# Altium footprint library Package_SO.PcbLib: 33 footprints (part 2 of 3)
Each footprint in its own frame and in the unit in brackets; x right, y up, seen from the top. Pads: shape width x height; smd on the part's side, far side on the other; paste and mask are expansions set on the pad; w line width, h text height; cw(c..) or ccw(c..) is an arc to the next point about the centre after c.
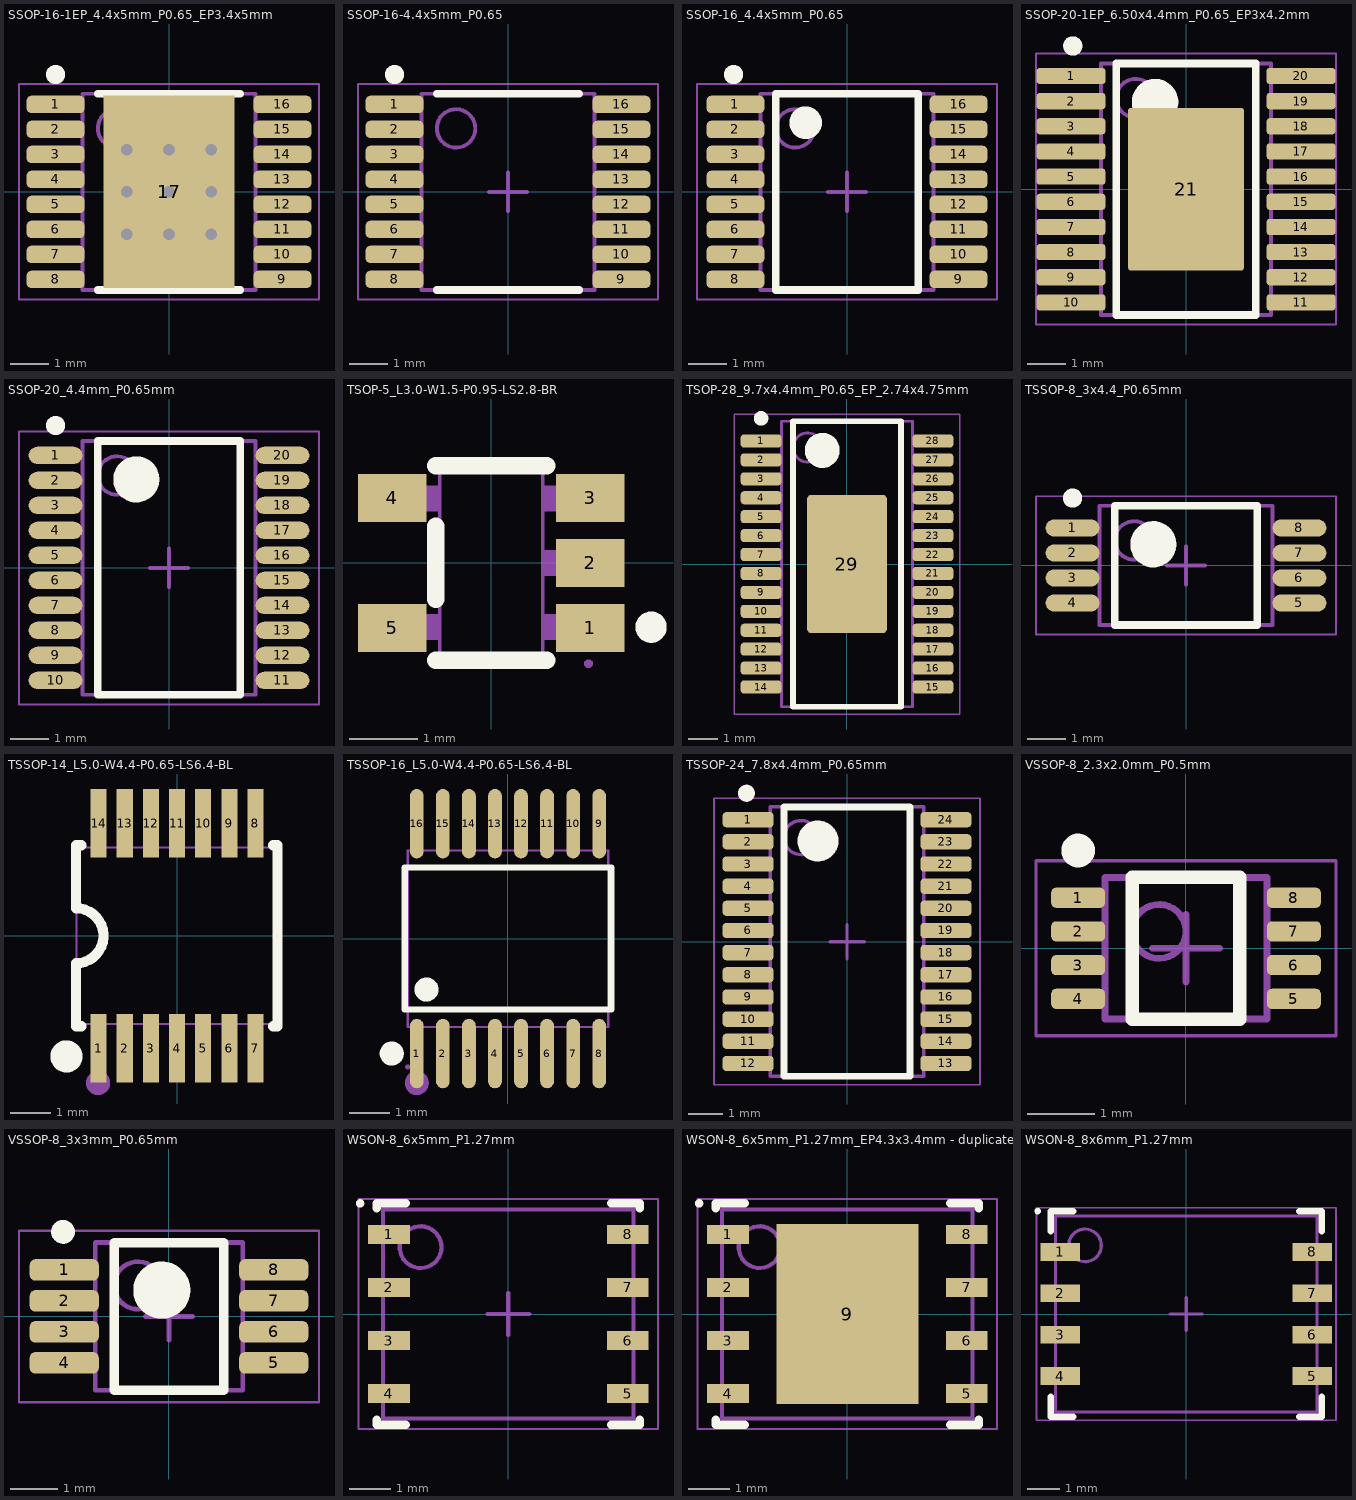
[diagram p1: the footprints below, top view; thin cyan lines are the x and y axes]

## SSOP-16-1EP_4.4x5mm_P0.65_EP3.4x5mm [mm] "TSOP, 16-Leads, Body 5.00x4.40mm, Pitch 0.65mm, Thermal Pad 3.30x3.30mm, IPC Medium Density"
height 1.2
pads (17):
  rrect50% 1.5x0.45 smd: 1(-2.95,2.275) 2(-2.95,1.625) 3(-2.95,0.975) 4(-2.95,0.325) 5(-2.95,-0.325) 6(-2.95,-0.975) 7(-2.95,-1.625) 8(-2.95,-2.275) 9(2.95,-2.275) 10(2.95,-1.625) 11(2.95,-0.975) 12(2.95,-0.325) 13(2.95,0.325) 14(2.95,0.975) 15(2.95,1.625) 16(2.95,2.275)
  rect 3.4x5 smd paste-0.85 mask-0.85: 17(0,0)
via -1.1,1.1 diameter 0.5 hole 0.3
via 0,1.1 diameter 0.5 hole 0.3
via 1.1,1.1 diameter 0.5 hole 0.3
via -1.1,0 diameter 0.5 hole 0.3
via 0,0 diameter 0.5 hole 0.3
via 1.1,0 diameter 0.5 hole 0.3
via -1.1,-1.1 diameter 0.5 hole 0.3
via 0,-1.1 diameter 0.5 hole 0.3
via 1.1,-1.1 diameter 0.5 hole 0.3
Top Overlay:
  circle w0.25: c-2.95,3.05 r0.125
  lines w0.2: -1.85,-2.55 1.85,-2.55 ; -1.85,2.55 1.85,2.55
Top Paste:
  rectangle: -1.65,-1.65 1.65,1.65
Top Solder:
  rectangle: -1.65,-1.65 1.65,1.65
Mechanical 13:
  circle w0.1: c-1.35,1.65 r0.5
  lines w0.1: -2.25,-2.55 -2.25,2.55 2.25,2.55 2.25,-2.55 -2.25,-2.55
Mechanical 15:
  lines w0.05: -3.9,-2.8 -3.9,2.8 3.9,2.8 3.9,-2.8 -3.9,-2.8
  lines w0.1: -0.5,0 0.5,0 ; 0,-0.5 0,0.5
3D body "TSOP65P640X120_HS-17N.step": height 1.2, standoff 0, extent -3.2,-2.55 3.2,2.55

## SSOP-16-4.4x5mm_P0.65 [mm] "TSOP, 16-Leads, Body 5.00x4.40mm, Pitch 0.65mm, Thermal Pad 3.30x3.30mm, IPC Medium Density"
height 1.2
pads (16):
  rrect50% 1.5x0.45 smd: 1(-2.95,2.275) 2(-2.95,1.625) 3(-2.95,0.975) 4(-2.95,0.325) 5(-2.95,-0.325) 6(-2.95,-0.975) 7(-2.95,-1.625) 8(-2.95,-2.275) 9(2.95,-2.275) 10(2.95,-1.625) 11(2.95,-0.975) 12(2.95,-0.325) 13(2.95,0.325) 14(2.95,0.975) 15(2.95,1.625) 16(2.95,2.275)
Top Overlay:
  circle w0.25: c-2.95,3.05 r0.125
  lines w0.2: -1.85,-2.55 1.85,-2.55 ; -1.85,2.55 1.85,2.55
Mechanical 13:
  circle w0.1: c-1.35,1.65 r0.5
  lines w0.1: -2.25,-2.55 -2.25,2.55 2.25,2.55 2.25,-2.55 -2.25,-2.55
Mechanical 15:
  lines w0.05: -3.9,-2.8 -3.9,2.8 3.9,2.8 3.9,-2.8 -3.9,-2.8
  lines w0.1: -0.5,0 0.5,0 ; 0,-0.5 0,0.5
3D body "TSOP65P640X120_HS-17N.step": height 1.2, standoff 0, extent -3.2,-2.55 3.2,2.55

## SSOP-16_4.4x5mm_P0.65 [mm] "TSOP, 16-Leads, Body 5.00x4.40mm, Pitch 0.65mm, Thermal Pad 3.30x3.30mm, IPC Medium Density"
height 1.2
pads (16):
  rrect50% 1.5x0.45 smd: 1(-2.9,2.275) 2(-2.9,1.625) 3(-2.9,0.975) 4(-2.9,0.325) 5(-2.9,-0.325) 6(-2.9,-0.975) 7(-2.9,-1.625) 8(-2.9,-2.275) 9(2.9,-2.275) 10(2.9,-1.625) 11(2.9,-0.975) 12(2.9,-0.325) 13(2.9,0.325) 14(2.9,0.975) 15(2.9,1.625) 16(2.9,2.275)
Top Overlay:
  circle w0.5: c-1.075,1.8 r0.175
  circle w0.25: c-2.95,3.05 r0.125
  lines w0.2: -1.85,-2.55 1.85,-2.55 1.85,2.55 -1.85,2.55 -1.85,-2.55
Mechanical 13:
  circle w0.1: c-1.35,1.65 r0.5
  lines w0.1: -2.25,-2.55 2.25,-2.55 2.25,2.55 -2.25,2.55 -2.25,-2.55
Mechanical 15:
  lines w0.05: -3.9,-2.8 3.9,-2.8 3.9,2.8 -3.9,2.8 -3.9,-2.8
  lines w0.1: -0.5,0 0.5,0 ; 0,-0.5 0,0.5
3D body "TSOP65P640X120_HS-17N.step": height 1.2, standoff 0, extent -3.2,-2.55 3.2,2.55

## SSOP-20-1EP_6.50x4.4mm_P0.65_EP3x4.2mm [mm] "TSOP, 20-Leads, Body 6.50x4.40mm, Pitch 0.65mm, IPC Medium Density"
height 0.9
pads (21):
  rrect40% 1.78x0.42 smd: 1(-2.97,2.925) 2(-2.97,2.275) 3(-2.97,1.625) 4(-2.97,0.975) 5(-2.97,0.325) 6(-2.97,-0.325) 7(-2.97,-0.975) 8(-2.97,-1.625) 9(-2.97,-2.275) 10(-2.97,-2.925) 11(2.97,-2.925) 12(2.97,-2.275) 13(2.97,-1.625) 14(2.97,-0.975) 15(2.97,-0.325) 16(2.97,0.325) 17(2.97,0.975) 18(2.97,1.625) 19(2.97,2.275) 20(2.97,2.925)
  rrect5% 3x4.2 smd: 21(0,0)
Top Overlay:
  circle w0.25: c-2.925,3.7 r0.125
  circle w0.6: c-0.8,2.25 r0.3
  lines w0.2: -1.8,-3.25 -1.8,3.25 1.8,3.25 1.8,-3.25 -1.8,-3.25
Mechanical 13:
  circle w0.1: c-1.3,2.35 r0.5
  lines w0.1: -2.2,-3.25 -2.2,3.25 2.2,3.25 2.2,-3.25 -2.2,-3.25
Mechanical 15:
  lines w0.05: -3.875,-3.5 -3.875,3.5 3.875,3.5 3.875,-3.5 -3.875,-3.5
  lines w0.1: -0.5,0 0.5,0 ; 0,-0.5 0,0.5
3D body "TSOP65P640X90-20N.step": height 0.9, standoff 0, extent -3.2,-3.25 3.2,3.25

## SSOP-20_4.4mm_P0.65mm [mm] "TSOP, 20-Leads, Body 6.50x4.40mm, Pitch 0.65mm, IPC Medium Density"
height 1.2
pads (20):
  oval 1.4x0.45 smd: 1(-2.95,2.925) 2(-2.95,2.275) 3(-2.95,1.625) 4(-2.95,0.975) 5(-2.95,0.325) 6(-2.95,-0.325) 7(-2.95,-0.975) 8(-2.95,-1.625) 9(-2.95,-2.275) 10(-2.95,-2.925) 11(2.95,-2.925) 12(2.95,-2.275) 13(2.95,-1.625) 14(2.95,-0.975) 15(2.95,-0.325) 16(2.95,0.325) 17(2.95,0.975) 18(2.95,1.625) 19(2.95,2.275) 20(2.95,2.925)
Top Overlay:
  circle w0.6: c-0.85,2.3 r0.3
  circle w0.25: c-2.95,3.7 r0.125
  lines w0.2: -1.85,-3.3 1.85,-3.3 1.85,3.3 -1.85,3.3 -1.85,-3.3
Mechanical 13:
  circle w0.1: c-1.35,2.4 r0.5
  lines w0.1: -2.25,-3.3 2.25,-3.3 2.25,3.3 -2.25,3.3 -2.25,-3.3
Mechanical 15:
  lines w0.05: -3.9,-3.55 3.9,-3.55 3.9,3.55 -3.9,3.55 -3.9,-3.55
  lines w0.1: -0.5,0 0.5,0 ; 0,-0.5 0,0.5
3D body "TSOP65P640X120-20N.step": height 1.2, standoff 0, extent -3.2,-3.3 3.2,3.3

## TSOP-5_L3.0-W1.5-P0.95-LS2.8-BR [mm]
pads (5):
  rect 1x0.7 smd: 1(1.448,-0.95) 2(1.448,0) 3(1.448,0.95) 4(-1.448,0.95) 5(-1.448,-0.95)
Top Overlay:
  circle w0.254: c2.337,-0.94 r0.102
  lines w0.254: -0.813,-1.422 0.812,-1.422 ; -0.813,-0.533 -0.813,0.534 ; -0.813,1.423 0.812,1.423
Mechanical 6:
  circle w0.254: c1.677,-0.965 r0.127
Mechanical 15:
  region: 0.975,-1.127 0.975,-0.752 1.375,-0.752 1.375,-1.127
  region: 0.74,-1.127 0.74,-0.752 0.985,-0.752 0.985,-1.127
  region: 0.975,-0.188 0.975,0.188 1.375,0.188 1.375,-0.188
  region: 0.74,-0.188 0.74,0.188 0.985,0.188 0.985,-0.188
  region: 0.975,0.752 0.975,1.127 1.375,1.127 1.375,0.752
  region: 0.74,0.752 0.74,1.127 0.985,1.127 0.985,0.752
  region: -1.375,0.752 -1.375,1.127 -0.975,1.127 -0.975,0.752
  region: -0.985,0.752 -0.985,1.127 -0.74,1.127 -0.74,0.752
  region: -1.375,-1.127 -1.375,-0.752 -0.975,-0.752 -0.975,-1.127
  region: -0.985,-1.127 -0.985,-0.752 -0.74,-0.752 -0.74,-1.127
  region: 1.483,-1.473 1.483,-1.448 1.447,-1.413 1.398,-1.413 1.363,-1.448 1.363,-1.473 1.363,-1.498 1.398,-1.533 1.447,-1.533 1.483,-1.498 1.483,-1.473
  lines w0.051: -0.75,-1.5 -0.75,1.5 0.75,1.5 0.75,-1.5 -0.75,-1.5
3D body "2222222.step": height 1.17, standoff 0, extent -1.4,-1.5 1.4,1.5

## TSOP-28_9.7x4.4mm_P0.65_EP_2.74x4.75mm [mm] "TSOP, 28-Leads, Body 9.70x4.40mm, Pitch 0.65mm, IPC Medium Density"
height 1.2
pads (29):
  rrect50% 1.4x0.45 smd: 1(-2.95,4.225) 2(-2.95,3.575) 3(-2.95,2.925) 4(-2.95,2.275) 5(-2.95,1.625) 6(-2.95,0.975) 7(-2.95,0.325) 8(-2.95,-0.325) 9(-2.95,-0.975) 10(-2.95,-1.625) 11(-2.95,-2.275) 12(-2.95,-2.925) 13(-2.95,-3.575) 14(-2.95,-4.225) 15(2.95,-4.225) 16(2.95,-3.575) 17(2.95,-2.925) 18(2.95,-2.275) 19(2.95,-1.625) 20(2.95,-0.975) 21(2.95,-0.325) 22(2.95,0.325) 23(2.95,0.975) 24(2.95,1.625) 25(2.95,2.275) 26(2.95,2.925) 27(2.95,3.575) 28(2.95,4.225)
  rrect10% 2.74x4.75 smd: 29(0,0)
Top Overlay:
  circle w0.6: c-0.85,3.9 r0.3
  circle w0.25: c-2.95,5 r0.125
  lines w0.2: -1.85,-4.9 1.85,-4.9 1.85,4.9 -1.85,4.9 -1.85,-4.9
Mechanical 13:
  circle w0.1: c-1.35,4 r0.5
  lines w0.1: -2.25,-4.9 2.25,-4.9 2.25,4.9 -2.25,4.9 -2.25,-4.9
Mechanical 15:
  lines w0.05: -3.875,-5.15 3.875,-5.15 3.875,5.15 -3.875,5.15 -3.875,-5.15
  lines w0.1: -0.5,0 0.5,0 ; 0,-0.5 0,0.5
3D body "TSOP65P640X120-28N.step": height 1.2, standoff 0, extent -3.2,-4.9 3.2,4.9

## TSSOP-8_3x4.4_P0.65mm [mm] "TSOP, 8-Leads, Body 3.00x4.40mm, Pitch 0.65mm, IPC Medium Density"
height 1.2
pads (8):
  oval 1.4x0.45 smd: 1(-2.95,0.975) 2(-2.95,0.325) 3(-2.95,-0.325) 4(-2.95,-0.975) 5(2.95,-0.975) 6(2.95,-0.325) 7(2.95,0.325) 8(2.95,0.975)
Top Overlay:
  circle w0.6: c-0.85,0.55 r0.3
  circle w0.25: c-2.95,1.75 r0.125
  lines w0.2: -1.85,-1.55 1.85,-1.55 1.85,1.55 -1.85,1.55 -1.85,-1.55
Mechanical 13:
  circle w0.1: c-1.35,0.65 r0.5
  lines w0.1: -2.25,-1.55 2.25,-1.55 2.25,1.55 -2.25,1.55 -2.25,-1.55
Mechanical 15:
  lines w0.05: -3.9,-1.8 3.9,-1.8 3.9,1.8 -3.9,1.8 -3.9,-1.8
  lines w0.1: -0.5,0 0.5,0 ; 0,-0.5 0,0.5
3D body "TSOP65P640X120-8N.step": height 1.2, standoff 0, extent -3.2,-1.55 3.2,1.55

## TSSOP-14_L5.0-W4.4-P0.65-LS6.4-BL [mm]
pads (14):
  rect 0.4x1.7 smd paste+0 mask+0.051: 1(-1.95,-2.8) 2(-1.3,-2.8) 3(-0.65,-2.8) 4(0,-2.8) 5(0.65,-2.8) 6(1.3,-2.8) 7(1.95,-2.8) 8(1.95,2.8) 9(1.3,2.8) 10(0.65,2.8) 11(0,2.8) 12(-0.65,2.8) 13(-1.3,2.8) 14(-1.95,2.8)
Top Overlay:
  circle w0.4: c-2.75,-3 r0.2
  lines w0.254: -2.515,-2.25 -2.515,-1.6 -2.515,-0.686 ccw(c-2.515,0) -2.515,0.686 -2.515,1.6 -2.515,2.25 ; -2.5,-2.25 -2.384,-2.25 ; -2.5,2.25 -2.384,2.25 ; 2.384,-2.25 2.5,-2.25 2.5,2.25 2.384,2.25
Mechanical 6:
  circle w0.3: c-1.964,-3.662 r0.15
Mechanical 15:
  drawing of 33 lines, arcs and shapes, not listed
3D body "2.step": height 1.1, standoff 0, extent -2.5,-3.006 2.5,3.006

## TSSOP-16_L5.0-W4.4-P0.65-LS6.4-BL [mm]
pads (16):
  oval 0.343x1.731 smd: 1(-2.275,-2.866) 2(-1.625,-2.866) 3(-0.975,-2.866) 4(-0.325,-2.866) 5(0.325,-2.866) 6(0.975,-2.866) 7(1.625,-2.866) 8(2.275,-2.866) 9(2.275,2.866) 10(1.625,2.866) 11(0.975,2.866) 12(0.325,2.866) 13(-0.325,2.866) 14(-0.975,2.866) 15(-1.625,2.866) 16(-2.275,2.866)
Top Overlay:
  circle w0.3: c-2.032,-1.27 r0.15
  circle w0.3: c-2.899,-2.866 r0.15
  lines w0.152: -2.576,-1.771 -2.576,1.772 2.576,1.772 2.576,-1.771 -2.576,-1.771
Mechanical 6:
  circle w0.3: c-2.275,-3.6 r0.15
Mechanical 15:
  drawing of 37 lines, arcs and shapes, not listed
3D body "1.step": height 1.05, standoff 0, extent -2.5,-3.203 2.5,3.203

## TSSOP-24_7.8x4.4mm_P0.65mm [mm] "TSOP, 24-Leads, Body 7.80x4.40mm, Pitch 0.65mm, IPC Medium Density"
height 1.2
pads (24):
  rrect50% 1.5x0.45 smd: 1(-2.9,3.575) 2(-2.9,2.925) 3(-2.9,2.275) 4(-2.9,1.625) 5(-2.9,0.975) 6(-2.9,0.325) 7(-2.9,-0.325) 8(-2.9,-0.975) 9(-2.9,-1.625) 10(-2.9,-2.275) 11(-2.9,-2.925) 12(-2.9,-3.575) 13(2.9,-3.575) 14(2.9,-2.925) 15(2.9,-2.275) 16(2.9,-1.625) 17(2.9,-0.975) 18(2.9,-0.325) 19(2.9,0.325) 20(2.9,0.975) 21(2.9,1.625) 22(2.9,2.275) 23(2.9,2.925) 24(2.9,3.575)
Top Overlay:
  circle w0.25: c-2.95,4.35 r0.125
  circle w0.6: c-0.85,2.95 r0.3
  lines w0.2: -1.85,-3.95 -1.85,3.95 1.85,3.95 1.85,-3.95 -1.85,-3.95
Mechanical 13:
  circle w0.1: c-1.35,3.05 r0.5
  lines w0.1: -2.25,-3.95 -2.25,3.95 2.25,3.95 2.25,-3.95 -2.25,-3.95
Mechanical 15:
  lines w0.05: -3.9,-4.2 -3.9,4.2 3.9,4.2 3.9,-4.2 -3.9,-4.2
  lines w0.1: -0.5,0 0.5,0 ; 0,-0.5 0,0.5
3D body "TSOP65P640X120-24N.step": height 1.2, standoff 0, extent -3.2,-3.95 3.2,3.95

## VSSOP-8_2.3x2.0mm_P0.5mm [mm] "TSSOP, 8-Leads, Body 2.00x2.30mm, Pitch 0.50mm, IPC Medium Density"
height 0.75
pads (8):
  rrect50% 0.8x0.3 smd: 1(-1.6,0.75) 2(-1.6,0.25) 3(-1.6,-0.25) 4(-1.6,-0.75) 5(1.6,-0.75) 6(1.6,-0.25) 7(1.6,0.25) 8(1.6,0.75)
Top Overlay:
  circle w0.25: c-1.6,1.45 r0.125
  lines w0.2: -0.8,-1.05 0.8,-1.05 0.8,1.05 -0.8,1.05 -0.8,-1.05
Mechanical 13:
  circle w0.1: c-0.4,0.25 r0.4
  lines w0.1: -1.2,-1.05 1.2,-1.05 1.2,1.05 -1.2,1.05 -1.2,-1.05
Mechanical 15:
  lines w0.05: -2.225,-1.3 2.225,-1.3 2.225,1.3 -2.225,1.3 -2.225,-1.3
  lines w0.1: -0.5,0 0.5,0 ; 0,-0.5 0,0.5
3D body "TSSOP50P310X75-8N.step": height 0.75, standoff 0, extent -1.549,-1.05 1.549,1.05

## VSSOP-8_3x3mm_P0.65mm [mm] "TSOP, 8-Leads, Body 3.00x3.00mm, Pitch 0.65mm, IPC Medium Density"
height 1.1
pads (8):
  rrect50% 1.45x0.45 smd: 1(-2.2,0.975) 2(-2.2,0.325) 3(-2.2,-0.325) 4(-2.2,-0.975) 5(2.2,-0.975) 6(2.2,-0.325) 7(2.2,0.325) 8(2.2,0.975)
Top Overlay:
  circle w0.6: c-0.15,0.55 r0.3
  circle w0.25: c-2.225,1.775 r0.125
  lines w0.2: -1.15,-1.55 1.15,-1.55 1.15,1.55 -1.15,1.55 -1.15,-1.55
Mechanical 13:
  circle w0.1: c-0.65,0.65 r0.5
  lines w0.1: -1.55,-1.55 1.55,-1.55 1.55,1.55 -1.55,1.55 -1.55,-1.55
Mechanical 15:
  lines w0.05: -3.15,-1.8 3.15,-1.8 3.15,1.8 -3.15,1.8 -3.15,-1.8
  lines w0.1: -0.5,0 0.5,0 ; 0,-0.5 0,0.5
3D body "TSOP65P490X110-8N.step": height 1.1, standoff 0, extent -2.458,-1.55 2.458,1.55

## WSON-8_6x5mm_P1.27mm [mm] "SON, 8-Leads, Body 5.00x6.00mm, Pitch 1.27mm, Thermal Pad 4.30x3.40mm, IPC Medium Density"
height 0.75
pads (8):
  rect 1x0.45 smd: 1(-2.86,1.905) 2(-2.86,0.635) 3(-2.86,-0.635) 4(-2.86,-1.905) 5(2.86,-1.905) 6(2.86,-0.635) 7(2.86,0.635) 8(2.86,1.905)
Top Overlay:
  circle w0.1: c-3.55,2.65 r0.05
  lines w0.2: -3.15,-2.53 -3.15,-2.65 -2.46,-2.65 ; -3.15,2.53 -3.15,2.65 -2.46,2.65 ; 2.46,-2.65 3.15,-2.65 3.15,-2.53 ; 2.46,2.65 3.15,2.65 3.15,2.53
Mechanical 13:
  circle w0.1: c-2.1,1.6 r0.5
  lines w0.1: -3,-2.5 -3,2.5 3,2.5 3,-2.5 -3,-2.5
Mechanical 15:
  lines w0.05: -3.585,-2.75 -3.585,2.75 3.585,2.75 3.585,-2.75 -3.585,-2.75
  lines w0.1: -0.5,0 0.5,0 ; 0,-0.5 0,0.5
3D body "SON127P600X75_HS-9N.step": height 0.75, standoff 0, extent -3.001,-2.5 3.001,2.5

## WSON-8_6x5mm_P1.27mm_EP4.3x3.4mm - duplicate [mm] "SON, 8-Leads, Body 5.00x6.00mm, Pitch 1.27mm, Thermal Pad 4.30x3.40mm, IPC Medium Density"
height 0.75
pads (9):
  rect 1x0.45 smd: 1(-2.86,1.905) 2(-2.86,0.635) 3(-2.86,-0.635) 4(-2.86,-1.905) 5(2.86,-1.905) 6(2.86,-0.635) 7(2.86,0.635) 8(2.86,1.905)
  rect 3.4x4.3 smd paste-1.7: 9(0,0)
Top Overlay:
  circle w0.1: c-3.55,2.65 r0.05
  lines w0.2: -3.15,-2.53 -3.15,-2.65 -2.46,-2.65 ; -3.15,2.53 -3.15,2.65 -2.46,2.65 ; 2.46,-2.65 3.15,-2.65 3.15,-2.53 ; 2.46,2.65 3.15,2.65 3.15,2.53
Top Paste:
  rectangle: 0.665,-2.045 1.595,-0.815
  rectangle: 0.665,-0.615 1.595,0.615
  rectangle: 0.665,0.815 1.595,2.045
  rectangle: -0.465,-2.045 0.465,-0.815
  rectangle: -0.465,-0.615 0.465,0.615
  rectangle: -0.465,0.815 0.465,2.045
  rectangle: -1.595,-2.045 -0.665,-0.815
  rectangle: -1.595,-0.615 -0.665,0.615
  rectangle: -1.595,0.815 -0.665,2.045
Mechanical 13:
  circle w0.1: c-2.1,1.6 r0.5
  lines w0.1: -3,-2.5 3,-2.5 3,2.5 -3,2.5 -3,-2.5
Mechanical 15:
  lines w0.05: -3.585,-2.75 3.585,-2.75 3.585,2.75 -3.585,2.75 -3.585,-2.75
  lines w0.1: -0.5,0 0.5,0 ; 0,-0.5 0,0.5
3D body "SON127P600X75_HS-9N.step": height 0.75, standoff 0, extent -3.001,-2.5 3.001,2.5

## WSON-8_8x6mm_P1.27mm [mm] "SON, 8-Leads, Body 6.00x8.00mm, Pitch 1.27mm, Thermal Pad 4.30x3.40mm, IPC Medium Density"
height 0.75
pads (8):
  rect 1.2x0.55 smd: 1(-3.86,1.905) 2(-3.86,0.635) 3(-3.86,-0.635) 4(-3.86,-1.905) 5(3.86,-1.905) 6(3.86,-0.635) 7(3.86,0.635) 8(3.86,1.905)
Top Overlay:
  circle w0.1: c-4.55,3.15 r0.05
  lines w0.2: -4.15,-2.53 -4.15,-3.15 -3.46,-3.15 ; -4.15,2.53 -4.15,3.15 -3.46,3.15 ; 3.46,-3.15 4.15,-3.15 4.15,-2.53 ; 3.46,3.15 4.15,3.15 4.15,2.53
Mechanical 13:
  circle w0.1: c-3.1,2.1 r0.5
  lines w0.1: -4,-3 -4,3 4,3 4,-3 -4,-3
Mechanical 15:
  lines w0.05: -4.585,-3.25 -4.585,3.25 4.585,3.25 4.585,-3.25 -4.585,-3.25
  lines w0.1: -0.5,0 0.5,0 ; 0,-0.5 0,0.5
3D body "SON127P800X75_HS-9N.step": height 0.75, standoff 0, extent -4.001,-3 4.001,3